# Altium footprint library Various.PcbLib: 2 footprints
Each footprint in its own frame and in the unit in brackets; x right, y up, seen from the top. Pads: shape width x height; smd on the part's side, far side on the other; paste and mask are expansions set on the pad; w line width, h text height; cw(c..) or ccw(c..) is an arc to the next point about the centre after c.
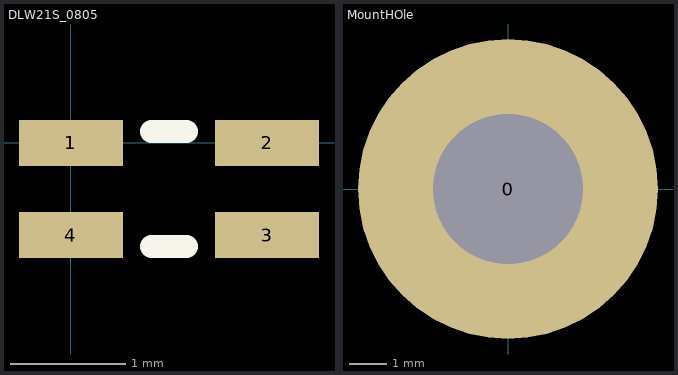
[diagram p0: the footprints below, top view; thin cyan lines are the x and y axes]

## DLW21S_0805 [mm] "Wide-wound common choke"
height 1.2
pads (4):
  rect 0.9x0.4 smd: 1(0,0) 2(1.7,0) 3(1.7,-0.8) 4(0,-0.8)
Top Overlay:
  lines w0.2: 0.7,-0.9 1,-0.9 ; 0.7,0.1 1,0.1
3D body: height 1.2, standoff 0.03, extent -0.45,-1 2.15,0.2

## MountHOle [mm] "Mount hole"
pads (1):
  round 8 hole 4: 0(0,0)